# EAGLE library part LCD16X2 (library lcd16x2)
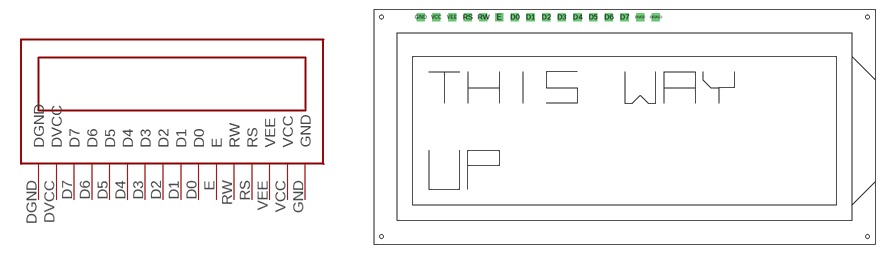
[diagram p0: symbol with the pads of LCD2X16; footprint LCD2X16]

Designator prefix -

## LCD16X2  [LCD2X16]
D0  D0
D1  D1
D2  D2
D3  D3
D4  D4
D5  D5
D6  D6
D7  D7
DGND  DGND
DVCC  DVCC
E  E
GND  GND
RS  RS
RW  RW
VCC  VCC
VEE  VEE

## Footprint LCD2X16 (pad centres in mm)
drill 0.8 square: D0 -17.78,17.78; D1 -15.24,17.78; D2 -12.7,17.78; D3 -10.16,17.78; D4 -7.62,17.78; D5 -5.08,17.78; D6 -2.54,17.78; D7 0,17.78; DGND 5.08,17.78; DVCC 2.54,17.78; E -20.32,17.78; GND -33.02,17.78; RS -25.4,17.78; RW -22.86,17.78; VCC -30.48,17.78; VEE -27.94,17.78
hole 0.6 at -39.37,17.78
hole 0.6 at 39.37,17.78
hole 0.6 at 39.37,-17.78
hole 0.6 at -39.37,-17.78